# Altium footprint library Sensors_Pressure_Pcb.PcbLib: 1 footprints
Each footprint in its own frame and in the unit in brackets; x right, y up, seen from the top. Pads: shape width x height; smd on the part's side, far side on the other; paste and mask are expansions set on the pad; w line width, h text height; cw(c..) or ccw(c..) is an arc to the next point about the centre after c.
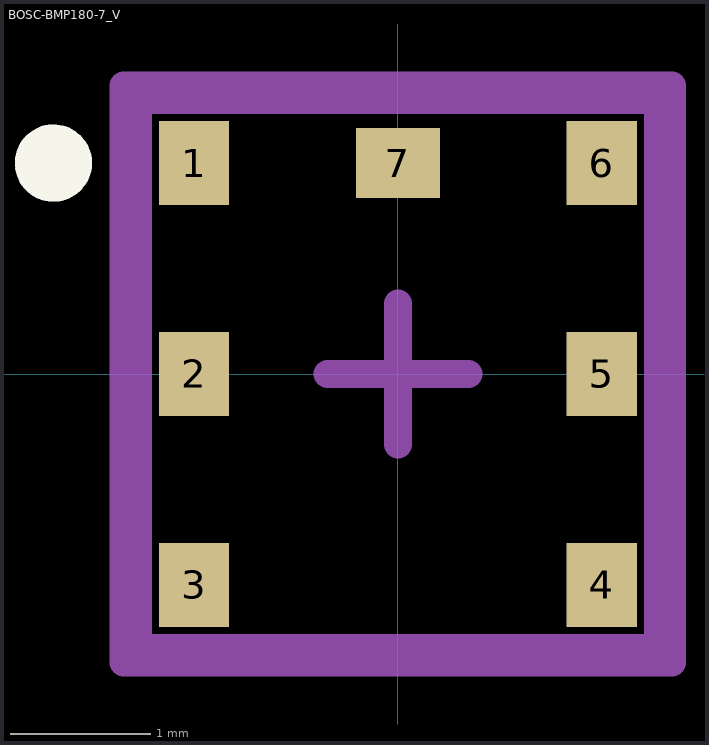
[diagram p0: the footprint, top view; thin cyan lines are the x and y axes]

## BOSC-BMP180-7_V [mm] "LGA, 7-Leads, Body 3.9x3.8mm, Pitch 1.5mm"
height 1
pads (7):
  rect 0.5x0.6 smd: 1(-1.45,1.5) 2(-1.45,0) 3(-1.45,-1.5) 4(1.45,-1.5) 5(1.45,0) 6(1.45,1.5)
  rect 0.6x0.5 smd: 7(0,1.5)
Top Overlay:
  circle w0.3: c-2.45,1.5 r0.125
Mechanical 13:
  lines w0.2: -1.85,-1.95 -1.85,1.95 1.85,1.95 1.85,-1.95 -1.85,-1.95
Mechanical 15:
  lines w0.2: -0.5,0 0.5,0 ; 0,-0.5 0,0.5 ; -1.95,-2.05 1.95,-2.05 1.95,2.05 -1.95,2.05 -1.95,-2.05
3D body "BMP180.step": height 0.99, standoff 0.01, extent -1.8,-1.9 1.8,1.9